# Altium schematic symbol library FrequencyConvectors.SchLib: 8 symbols
Pins are listed as number, name and electrical type; pins without a type are passive.

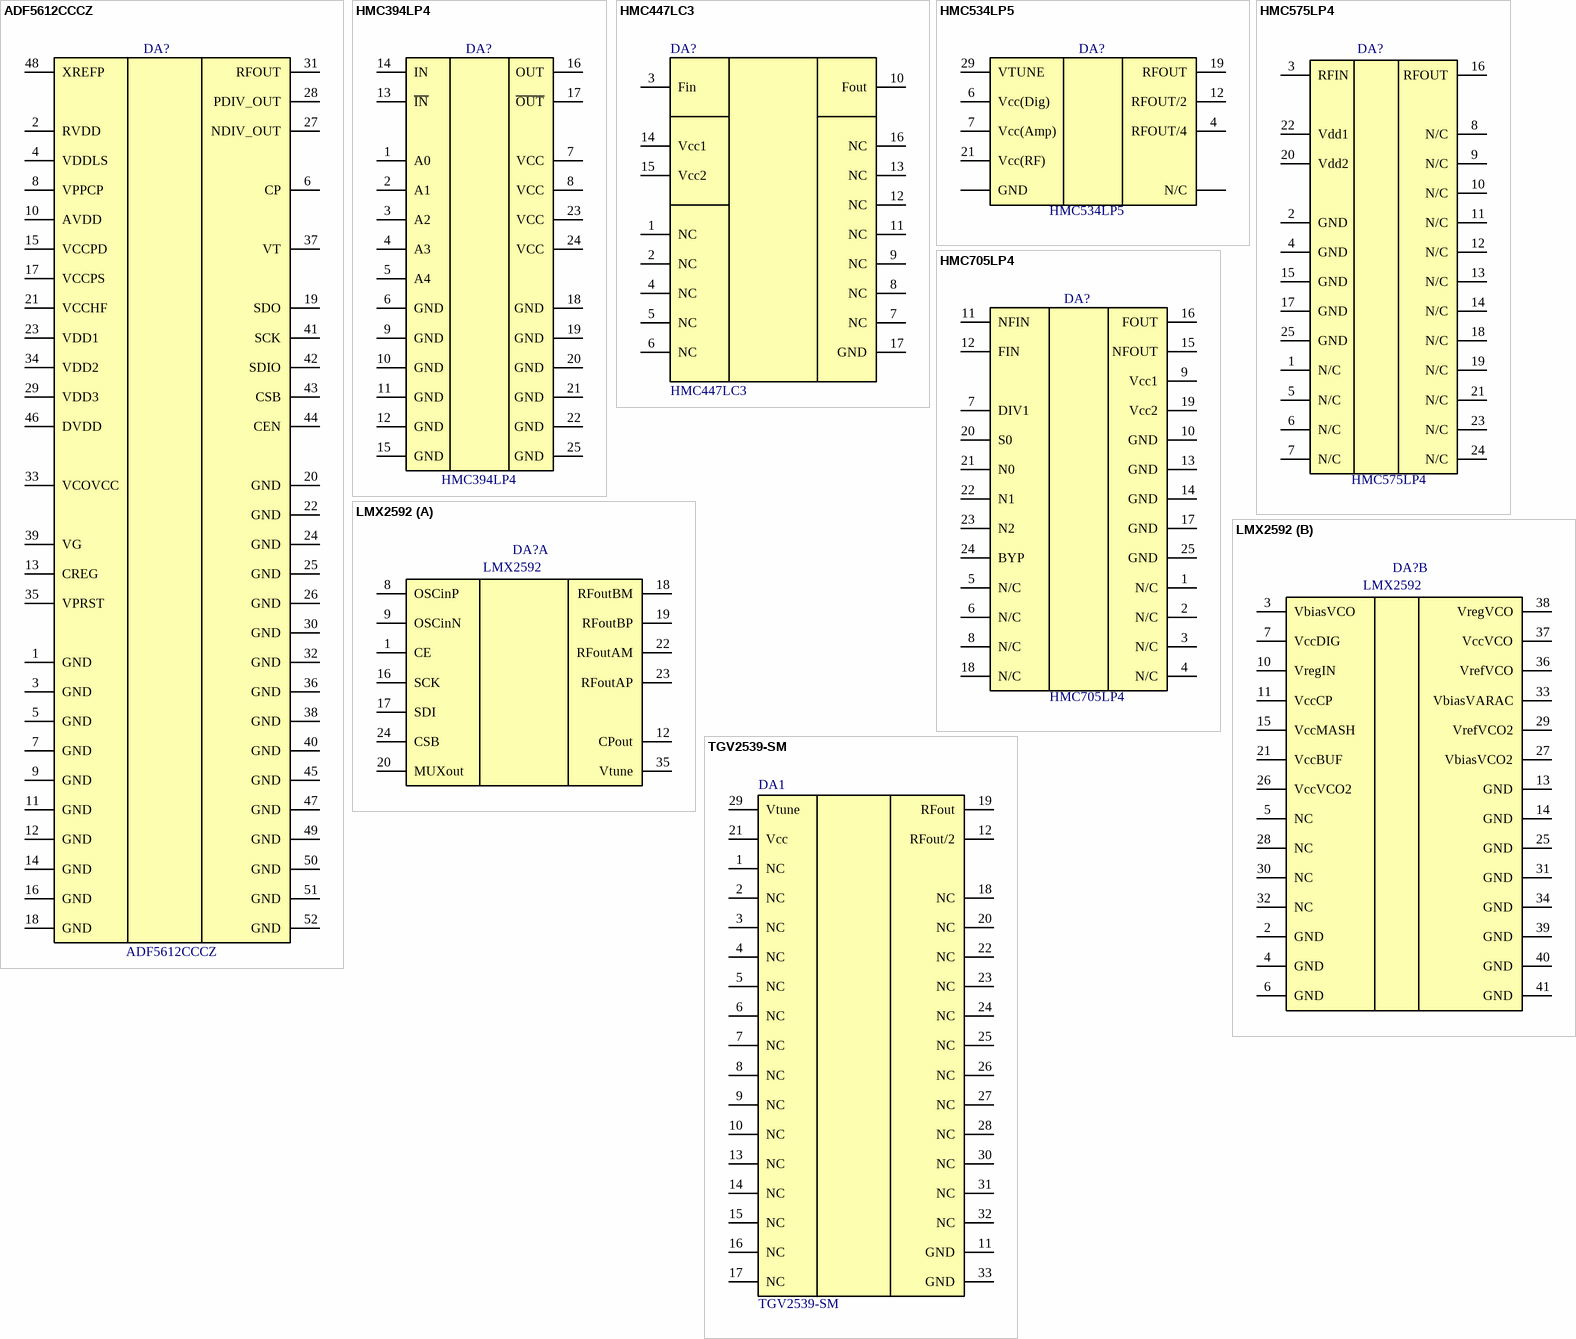
[diagram p0: symbols ADF5612CCCZ to TGV2539-SM]

## ADF5612CCCZ
designator DA?
Microwave Wideband Synthesizer with Integrated VCO; Manufacturer: Analog Devices; PartNumber: ADF5612CCCZ; ComponentLink1Description: Product Page; ComponentLink1URL: https://www.analog.com/en/products/adf5612.html; ComponentLink2Description: DataSheet; ComponentLink2URL: https://www.analog.com/media/en/technical-documentation/data-sheets/adf5612.pdf
footprint AD LGA CC-48-14 (48-Terminal Land Grid Array [LGA] (CC-48-14))
pins: 1 GND, 2 RVDD, 3 GND, 4 VDDLS, 5 GND, 6 CP, 7 GND, 8 VPPCP, 9 GND, 10 AVDD, 11 GND, 12 GND, 13 CREG, 14 GND, 15 VCCPD, 16 GND, 17 VCCPS, 18 GND, 19 SDO, 20 GND, 21 VCCHF, 22 GND, 23 VDD1, 24 GND, 25 GND, 26 GND, 27 NDIV_OUT, 28 PDIV_OUT, 29 VDD3, 30 GND, 31 RFOUT, 32 GND, 33 VCOVCC, 34 VDD2, 35 VPRST, 36 GND, 37 VT, 38 GND, 39 VG, 40 GND, 41 SCK, 42 SDIO, 43 CSB, 44 CEN, 45 GND, 46 DVDD, 47 GND, 48 XREFP, 49 GND, 50 GND, 51 GND, 52 GND

## HMC394LP4
designator DA?
Programmable 5-Bit Counter SMT, DC - 2.2 GHz; Manufacturer: Analog Devices; PartNumber: HMC394LP4; ComponentLink1Description: Product Page; ComponentLink1URL: https://www.analog.com/en/products/hmc394.html; ComponentLink2Description: DataSheet; ComponentLink2URL: https://www.analog.com/media/en/technical-documentation/data-sheets/hmc394.pdf
footprint QFN25P50_400X400X100L40X24T280N (Quad Flat No-Lead (QFN with Tab), 0.50 mm pitch; square, 6 pin X 6 pin, 4.00 mm L X 4.00 mm W X 1.00 mm H body)
pins: 1 A0, 2 A1, 3 A2, 4 A3, 5 A4, 6 GND, 7 VCC, 8 VCC, 9 GND, 10 GND, 11 GND, 12 GND, 13 ~{IN}, 14 IN, 15 GND, 16 OUT, 17 ~{OUT}, 18 GND, 19 GND, 20 GND, 21 GND, 22 GND, 23 VCC, 24 VCC, 25 GND

## HMC447LC3
designator DA?
10 to 26 GHz Divide-By-4; Manufacturer: Analog Devices; PartNumber: HMC447LC3; ComponentLink1Description: Product Page; ComponentLink1URL: https://www.analog.com/en/products/hmc447.html; ComponentLink2Description: DataSheet; ComponentLink2URL: https://www.analog.com/media/en/technical-documentation/data-sheets/hmc447.pdf
footprint QFN17P50_300X300X100L40X24T170N (Quad Flat No-Lead (QFN with Tab), 0.50 mm pitch; square, 4 pin X 4 pin, 3.00 mm L X 3.00 mm W X 1.00 mm H body)
pins: 1 NC, 2 NC, 3 Fin, 4 NC, 5 NC, 6 NC, 7 NC, 8 NC, 9 NC, 10 Fout, 11 NC, 12 NC, 13 NC, 14 Vcc1, 15 Vcc2, 16 NC, 17 GND

## HMC534LP5
designator DA?
MMIC VCO w/ HALF FREQUENCY OUTPUT / & DIVIDE-BY-4, 10.6 - 11.8 GHz; Manufacturer: Analog Devices; PartNumber: HMC534LP5; ComponentLink1Description: Product Page; ComponentLink1URL: https://www.analog.com/en/products/hmc534.html; ComponentLink2Description: DataSheet; ComponentLink2URL: https://www.analog.com/media/en/technical-documentation/data-sheets/hmc534.pdf
footprint QFN33P50_500X500X100L40X24T380N (Quad Flat No-Lead (QFN with Tab), 0.50 mm pitch; square, 8 pin X 8 pin, 5.00 mm L X 5.00 mm W X 1.00 mm H body)
pins: 1, 2, 3, 8, 9, 10, 13, 14, 15, 16, 17, 18, 20, 22, 23, 24, 25, 26, 27, 28, 30, 31, 32 N/C, 4 RFOUT/4, 5, 11, 33 GND, 6 Vcc(Dig), 7 Vcc(Amp), 12 RFOUT/2, 19 RFOUT, 21 Vcc(RF), 29 VTUNE

## HMC575LP4
designator DA?
SMT GaAs MMIC x2 ACTIVE FREQUENCY / MULTIPLIER, 6 - 9 GHz OUTPUT; Manufacturer: Analog Devices; PartNumber: HMC575LP4; ComponentLink1Description: Product Page; ComponentLink1URL: https://www.analog.com/en/products/hmc575.html; ComponentLink2Description: DataSheet; ComponentLink2URL: https://www.analog.com/media/en/technical-documentation/data-sheets/hmc575.pdf
footprint QFN25P50_400X400X100L40X24T280N (Quad Flat No-Lead (QFN with Tab), 0.50 mm pitch; square, 6 pin X 6 pin, 4.00 mm L X 4.00 mm W X 1.00 mm H body)
pins: 1 N/C, 2 GND, 3 RFIN, 4 GND, 5 N/C, 6 N/C, 7 N/C, 8 N/C, 9 N/C, 10 N/C, 11 N/C, 12 N/C, 13 N/C, 14 N/C, 15 GND, 16 RFOUT, 17 GND, 18 N/C, 19 N/C, 20 Vdd2, 21 N/C, 22 Vdd1, 23 N/C, 24 N/C, 25 GND

## HMC705LP4
designator DA?
6.5 GHz PROGRAMMABLE DIVIDER (N = 1 - 17); Manufacturer: Analog Devices; PartNumber: HMC705LP4; ComponentLink1Description: Product Page; ComponentLink1URL: https://www.analog.com/en/products/hmc705.html; ComponentLink2Description: DataSheet; ComponentLink2URL: https://www.analog.com/media/en/technical-documentation/data-sheets/hmc705.pdf
footprint QFN25P50_400X400X100L40X24T280N (Quad Flat No-Lead (QFN with Tab), 0.50 mm pitch; square, 6 pin X 6 pin, 4.00 mm L X 4.00 mm W X 1.00 mm H body)
pins: 1 N/C, 2 N/C, 3 N/C, 4 N/C, 5 N/C, 6 N/C, 7 DIV1, 8 N/C, 9 Vcc1, 10 GND, 11 NFIN, 12 FIN, 13 GND, 14 GND, 15 NFOUT, 16 FOUT, 17 GND, 18 N/C, 19 Vcc2, 20 S0, 21 N0, 22 N1, 23 N2, 24 BYP, 25 GND

## LMX2592
designator DA?
9.8-GHz wideband frequency synthesizer with integrated VCO; Manufacturer: Texas Instruments; PartNumber: LMX2592; ComponentLink1Description: Product Page; ComponentLink1URL: https://www.ti.com/product/LMX2592; ComponentLink2Description: DataSheet; ComponentLink2URL: https://www.ti.com/lit/gpn/lmx2592
footprint QFN41P50_600X600X100L40X25T450N (Quad Flat No-Lead (QFN with Tab), 0.50 mm pitch; square, 10 pin X 10 pin, 6.00 mm L X 6.00 mm W X 1.00 mm H body)
part A pins: 1 CE, 8 OSCinP, 9 OSCinN, 12 CPout, 16 SCK, 17 SDI, 18 RFoutBM, 19 RFoutBP, 20 MUXout, 22 RFoutAM, 23 RFoutAP, 24 CSB, 35 Vtune
part B pins: 2 GND, 3 VbiasVCO, 4 GND, 5 NC, 6 GND, 7 VccDIG, 10 VregIN, 11 VccCP, 13 GND, 14 GND, 15 VccMASH, 21 VccBUF, 25 GND, 26 VccVCO2, 27 VbiasVCO2, 28 NC, 29 VrefVCO2, 30 NC, 31 GND, 32 NC, 33 VbiasVARAC, 34 GND, 36 VrefVCO, 37 VccVCO, 38 VregVCO, 39 GND, 40 GND, 41 GND

## TGV2539-SM
designator DA1
10.7 – 11.5 GHz VCO with Divide by 2; Manufacturer: Qorvo; PartNumber: TGV2539-SM; ComponentLink1Description: DataSheet; ComponentLink1URL: https://www.qorvo.com/products/d/da005181
footprint QFN33P50_500X500X90L40X25T370N (Quad Flat No-Lead (QFN with Tab), 0.50 mm pitch; square, 8 pin X 8 pin, 5.00 mm L X 5.00 mm W X 0.90 mm H body)
pins: 1 NC, 2 NC, 3 NC, 4 NC, 5 NC, 6 NC, 7 NC, 8 NC, 9 NC, 10 NC, 11 GND, 12 RFout/2, 13 NC, 14 NC, 15 NC, 16 NC, 17 NC, 18 NC, 19 RFout, 20 NC, 21 Vcc, 22 NC, 23 NC, 24 NC, 25 NC, 26 NC, 27 NC, 28 NC, 29 Vtune, 30 NC, 31 NC, 32 NC, 33 GND